# Altium schematic symbol library MB398B1.SchLib: 20 symbols
Pins are listed as number, name and electrical type; pins without a type are passive.

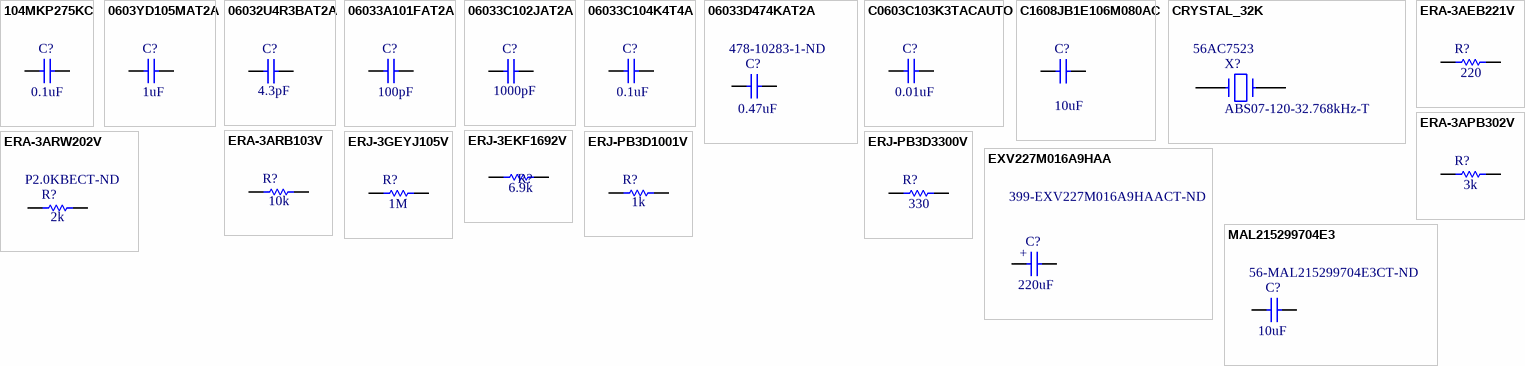
[diagram p0: symbols 104MKP275KC to MAL215299704E3]

## 104MKP275KC
designator C?  value 0.1uF  (hidden comment: 104MKP275KC)
Capacitor; Manufacturer: KEMET; Manufacturer Part Number: C0603C103K3TACAUTO; Supplier 2: Digi-Key; RoHS: No; Stock 2: 10862; Pricing 2: 1=0.45000, 10=0.31800, 50=0.24080, 100=0.20970, 500=0.15532, 1000=0.13202 (USD); Supplier Part Number 1: 399-C0603C103K3TACAUTOCT-ND
simulation model CAP (Capacitor)
signal-integrity model Cap
footprint 1.083FILM
pins: 1, 2

## 0603YD105MAT2A
designator C?  value 1uF  (hidden comment: 0603YD105MAT2A)
AVX - 0603YD105MAT2A - Keramikvielschichtkondensator, SMD, 1 µF, 16 V, 0603 [Metrisch 1608], ± 20%, X5R, AVX 0603 MLCC; Manufacturer: Kyocera AVX; Voltage Rating (DC): 16V; Dissipation Factor: 3.5%; Supplier 2: Digi-Key; Manufacturer Part Number: 0603YD105MAT2A; RoHS: Yes; Category: Ceramic Capacitors; Stock 2: 32400; Pricing 2: 1=0.17000, 10=0.12100, 50=0.06880, 100=0.05700, 500=0.03998, 1000=0.03310 (USD); Mount: Surface Mount; Case/Package: 0603; Number of Pins: 2; Case Code (Metric): 1608; Case Code (Imperial): 0603; Min Operating Temperature: -55°C; Max Operating Temperature: 85°C; Capacitance: 1uF; Tolerance: 20%; Dielectric: X5R; Packaging: Tape and Reel; Voltage Rating: 16V; Package Quantity: 4000; Termination: SMD/SMT; Series: -; Construction: Flat; Length: 1.6mm; Width: 0.032inch; Height: 0.9mm; Depth: 0.81mm; Thickness: 0.035inch; Radiation Hardening: No; REACH SVHC: No SVHC; Lead Free: Lead Free; RoHS Compliant: Yes; ComponentLink1URL: https://datasheet.ciiva.com/151/cx5r-151029.pdf?src-supplier=Digi-Key; ComponentLink1Description: https://datasheet.ciiva.com/151/cx5r-151029.pdf?src-supplier=Digi-Key; ComponentLink2URL: https://datasheet.ciiva.com/151/cx5r-151030.pdf?src-supplier=Digi-Key; ComponentLink2Description: https://datasheet.ciiva.com/151/cx5r-151030.pdf?src-supplier=Digi-Key; ComponentLink3URL: https://datasheet.ciiva.com/151/cx5r-151031.pdf?src-supplier=Digi-Key; ComponentLink3Description: https://datasheet.ciiva.com/151/cx5r-151031.pdf?src-supplier=Digi-Key; ComponentLink4URL: https://datasheet.ciiva.com/22682/1666675-22682860.pdf?src-supplier=Element14; ComponentLink4Description: https://datasheet.ciiva.com/22682/1666675-22682860.pdf?src-supplier=Element14; ComponentLink5URL: https://datasheet.ciiva.com/28586/1666675-28586031.pdf?src-supplier=Element14; ComponentLink5Description: https://datasheet.ciiva.com/28586/1666675-28586031.pdf?src-supplier=Element14; Supplier Part Number 1: 478-5319-1-ND
simulation model CAP (Capacitor)
signal-integrity model Cap
footprint 0603C (Chip Capacitor, Body 1.6x0.8mm, Height 1.0mm, IPC Medium Density)
pins: 1, 2

## 06032U4R3BAT2A
designator C?  value 4.3pF  (hidden comment: 06032U4R3BAT2A)
CAP CER 4.3PF 200V NP0 0603; Manufacturer: Kyocera AVX; Dielectric: C0G; Supplier 2: Digi-Key; Manufacturer Part Number: 06032U4R3BAT2A; RoHS: Yes; Category: Ceramic Capacitors; Stock 2: 15764; Pricing 2: 1=0.35000, 10=0.24200, 50=0.16100, 100=0.13680, 500=0.09660, 1000=0.08452 (USD); Mount: Surface Mount; Case/Package: 0603; Case Code (Imperial): 0603; Case Code (Metric): 1608; Min Operating Temperature: -55°C; Max Operating Temperature: 125°C; Voltage Rating: 200V; Capacitance: 4.3pF; Voltage Rating (DC): 200V; Packaging: Tape and Reel; Package Quantity: 8000; Termination: SMD/SMT; Resistor Type: Ceramic; Series: U; Construction: Flat; Length: 0.06inch; Width: 0.81mm; Thickness: 0.036inch; Depth: 0.76mm; Radiation Hardening: No; RoHS Compliant: Yes; ComponentLink1URL: https://datasheet.ciiva.com/207/useries-207438.pdf?src-supplier=Digi-Key; ComponentLink1Description: https://datasheet.ciiva.com/207/useries-207438.pdf?src-supplier=Digi-Key; ComponentLink2URL: https://datasheet.ciiva.com/11570/useries-11570909.pdf?src-supplier=Avnet; ComponentLink2Description: https://datasheet.ciiva.com/11570/useries-11570909.pdf?src-supplier=Avnet; Supplier Part Number 1: 478-10269-1-ND
simulation model CAP (Capacitor)
signal-integrity model Cap
footprint 0603C (Chip Capacitor, Body 1.6x0.8mm, Height 1.0mm, IPC Medium Density)
pins: 1, 2

## 06033A101FAT2A
designator C?  value 100pF  (hidden comment: 06033A101FAT2A)
Multilayer Ceramic Capacitors MLCC - SMD/SMT 25V 100pF C0G 0603 1% Tol; Manufacturer: Kyocera AVX; Supplier 2: Digi-Key; Manufacturer Part Number: 06033A101FAT2A; RoHS: Yes; Category: Ceramic Capacitors; Stock 2: 17449; Pricing 2: 1=0.50000, 10=0.34500, 50=0.24160, 100=0.20700, 500=0.15524, 1000=0.13110 (USD); Mount: Surface Mount; Case/Package: 0603; Case Code (Imperial): 0603; Case Code (Metric): 1608; Weight: 7.1E-05oz; Min Operating Temperature: -55°C; Max Operating Temperature: 125°C; Capacitance: 100pF; Tolerance: 1%; Dielectric: C0G; Packaging: Tape and Reel; Voltage Rating: 25V; Voltage Rating (DC): 25V; Package Quantity: 4000; Termination: SMD/SMT; Series: 0603; Construction: Flat; Length: 1.6mm; Width: 0.81mm; Height: 0.13mm; Depth: 0.81mm; Thickness: 0.035inch; Radiation Hardening: No; RoHS Compliant: Yes; ComponentLink1URL: https://datasheet.ciiva.com/209/ccog-209628.pdf?src-supplier=Digi-Key; ComponentLink1Description: https://datasheet.ciiva.com/209/ccog-209628.pdf?src-supplier=Digi-Key; Supplier Part Number 1: 478-06033A101FAT2ACT-ND
simulation model CAP (Capacitor)
signal-integrity model Cap
footprint 0603C (Chip Capacitor, Body 1.6x0.8mm, Height 1.0mm, IPC Medium Density)
pins: 1, 2

## 06033C102JAT2A
designator C?  value 1000pF  (hidden comment: 06033C102JAT2A)
0603 1 nF 25 V ±5 % Tolerance X7R Surface Mount Multilayer Ceramic Capacitor; Manufacturer: Kyocera AVX; Capacitance: 1nF; Tolerance: 5%; Voltage Rating (DC): 25V; Supplier Part Number 1: 478-10673-1-ND; Supplier 2: Digi-Key; Manufacturer Part Number: 06033C102JAT2A; RoHS: Yes; Category: Ceramic Capacitors; Stock 2: 72865; Pricing 2: 1=0.27000, 10=0.18600, 50=0.12420, 100=0.10560, 500=0.07452, 1000=0.06520 (USD); Mount: Surface Mount; Case/Package: 0603; Number of Pins: 2; Case Code (Metric): 1608; Case Code (Imperial): 0603; Min Operating Temperature: -55°C; Max Operating Temperature: 125°C; Packaging: Tape and Reel; Dielectric: X7R; Package Quantity: 1; Voltage Rating: 25V; Termination: SMD/SMT; Series: -; Construction: Flat; Length: 1.6mm; Width: 0.032inch; Thickness: 0.035inch; Depth: 0.81mm; Lead Free: Lead Free; RoHS Compliant: Yes; REACH SVHC: Unknown; ComponentLink1URL: https://datasheet.ciiva.com/206/cx7r-206114.pdf?src-supplier=Digi-Key; ComponentLink1Description: https://datasheet.ciiva.com/206/cx7r-206114.pdf?src-supplier=Digi-Key; ComponentLink2URL: https://datasheet.ciiva.com/14886/cx7r-14886873.pdf?src-supplier=Digi-Key; ComponentLink2Description: https://datasheet.ciiva.com/14886/cx7r-14886873.pdf?src-supplier=Digi-Key; ComponentLink3URL: https://datasheet.ciiva.com/14886/cx7r-14886874.pdf?src-supplier=Digi-Key; ComponentLink3Description: https://datasheet.ciiva.com/14886/cx7r-14886874.pdf?src-supplier=Digi-Key; ComponentLink4URL: https://datasheet.ciiva.com/5422/cx7r-218113-5422101.pdf?src-supplier=Mouser; ComponentLink4Description: https://datasheet.ciiva.com/5422/cx7r-218113-5422101.pdf?src-supplier=Mouser; ComponentLink5URL: https://datasheet.ciiva.com/16327/cx7r-16327167.pdf?src-supplier=Future+Electronics; ComponentLink5Description: https://datasheet.ciiva.com/16327/cx7r-16327167.pdf?src-supplier=Future+Electronics
simulation model CAP (Capacitor)
signal-integrity model Cap
footprint 0603C (Chip Capacitor, Body 1.6x0.8mm, Height 1.0mm, IPC Medium Density)
pins: 1, 2

## 06033C104K4T4A
designator C?  value 0.1uF  (hidden comment: 06033C104K4T4A)
Cap Ceramic 0.1uF 25V X7R 10% Pad SMD 0603 125C Automotive T/R; Manufacturer: Kyocera AVX; Capacitance: 100nF; Supplier Part Number 1: 478-10673-1-ND; Supplier 2: Digi-Key; Manufacturer Part Number: 06033C104K4T4A; RoHS: Yes; Category: Ceramic Capacitors; Stock 2: 4996; Pricing 2: 1=0.15000, 10=0.11000, 50=0.06220, 100=0.05150, 500=0.03612, 1000=0.02991, 2500=0.02784, 5000=0.02547 (USD); Mount: Surface Mount; Case/Package: 0603; Min Operating Temperature: -55°C; Max Operating Temperature: 125°C; Tolerance: 10%; Packaging: Tape and Reel; Dielectric: X7R; Voltage Rating (DC): 25V; Construction: Flat; Length: 1.6mm; Depth: 0.81mm; ComponentLink1URL: https://datasheet.ciiva.com/11503/cauto-11503964.pdf?src-supplier=Avnet; ComponentLink1Description: https://datasheet.ciiva.com/11503/cauto-11503964.pdf?src-supplier=Avnet
simulation model CAP (Capacitor)
signal-integrity model Cap
footprint 0603C (Chip Capacitor, Body 1.6x0.8mm, Height 1.0mm, IPC Medium Density)
pins: 1, 2

## 06033D474KAT2A
designator C?  value 0.47uF  Supplier Part Number 3: 478-10283-1-ND  (hidden comment: 06033D474KAT2A)
CAP CER 0.47UF 25V X5R 0603; Manufacturer: Kyocera AVX; Capacitance: 470nF; Tolerance: 10%; Supplier 2: Digi-Key; Manufacturer Part Number: 06033D474KAT2A; RoHS: Yes; Category: Ceramic Capacitors; Stock 2: 2153; Pricing 2: 1=0.54000, 10=0.37400, 50=0.26160, 100=0.22420, 500=0.16818, 1000=0.14202 (USD); Mount: Surface Mount; Case/Package: 0603; Number of Pins: 2; Case Code (Metric): 1608; Case Code (Imperial): 0603; Min Operating Temperature: -55°C; Max Operating Temperature: 85°C; Packaging: Tape and Reel; Voltage Rating: 25V; Package Quantity: 4000; Voltage Rating (DC): 25V; Dielectric: X5R; Termination: SMD/SMT; Series: -; Construction: Flat; Length: 1.6mm; Width: 0.032inch; Height: 0.9mm; Thickness: 0.035inch; Depth: 0.81mm; Radiation Hardening: No; REACH SVHC: Unknown; Lead Free: Lead Free; RoHS Compliant: Yes; ComponentLink1URL: https://datasheet.ciiva.com/6265/cx5r-6265463.pdf?src-supplier=Digi-Key; ComponentLink1Description: https://datasheet.ciiva.com/6265/cx5r-6265463.pdf?src-supplier=Digi-Key; ComponentLink2URL: https://datasheet.ciiva.com/5452/cx5r-5452170.pdf?src-supplier=Mouser; ComponentLink2Description: https://datasheet.ciiva.com/5452/cx5r-5452170.pdf?src-supplier=Mouser; Supplier 1: Digi-Key; Supplier 3: Digi-Key
simulation model CAP (Capacitor)
signal-integrity model Cap
footprint 0603C (Chip Capacitor, Body 1.6x0.8mm, Height 1.0mm, IPC Medium Density)
pins: 1, 2

## C0603C103K3TACAUTO
designator C?  value 0.01uF  (hidden comment: C0603C103K3TACAUTO)
Capacitor; Manufacturer: KEMET; Supplier 2: Digi-Key; Manufacturer Part Number: C0603C103K3TACAUTO; RoHS: No; Stock 2: 10862; Pricing 2: 1=0.45000, 10=0.31800, 50=0.24080, 100=0.20970, 500=0.15532, 1000=0.13202 (USD); Supplier Part Number 1: 399-C0603C103K3TACAUTOCT-ND
simulation model CAP (Capacitor)
signal-integrity model Cap
footprint 0603C (Chip Capacitor, Body 1.6x0.8mm, Height 1.0mm, IPC Medium Density)
pins: 1, 2

## C1608JB1E106M080AC
designator C?  value 10uF  (hidden comment: C1608JB1E106M080AC)
CAP CER 10UF 25V JB 0603; Manufacturer: TDK; Dielectric Material: Ceramic; Tolerance: 20%; Supplier 2: Digi-Key; Manufacturer Part Number: C1608JB1E106M080AC; RoHS: Yes; Category: Ceramic Capacitors; Stock 2: 31154; Pricing 2: 1=0.73000, 10=0.53900, 50=0.43120, 100=0.36960, 500=0.29260, 1000=0.24640 (USD); Mount: Surface Mount; Case/Package: 0603; Case Code (Metric): 1608; Case Code (Imperial): 0603; Min Operating Temperature: -25°C; Max Operating Temperature: 85°C; Package Quantity: 4000; Packaging: Tape and Reel; Capacitance: 10uF; Voltage Rating: 25V; Termination: SMD/SMT; Resistor Type: Ceramic; Voltage Rating (DC): 25V; Series: C; Length: 0.063inch; Width: 0.8mm; Height: 0.8mm; Thickness: 0.035inch; Lead Free: Lead Free; RoHS Compliant: Yes; ComponentLink1URL: https://datasheet.ciiva.com/14907/tdkmlcccaprange-14907785.pdf?src-supplier=Digi-Key; ComponentLink1Description: https://datasheet.ciiva.com/14907/tdkmlcccaprange-14907785.pdf?src-supplier=Digi-Key; ComponentLink2URL: https://datasheet.ciiva.com/14907/tdkmlcccaprange-14907786.pdf?src-supplier=Digi-Key; ComponentLink2Description: https://datasheet.ciiva.com/14907/tdkmlcccaprange-14907786.pdf?src-supplier=Digi-Key; ComponentLink3URL: https://datasheet.ciiva.com/14907/tdkmlcccaprange-14907787.pdf?src-supplier=Digi-Key; ComponentLink3Description: https://datasheet.ciiva.com/14907/tdkmlcccaprange-14907787.pdf?src-supplier=Digi-Key; Supplier Part Number 1: 445-11238-1-ND
simulation model CAP (Capacitor)
signal-integrity model Cap
footprint 0603C (Chip Capacitor, Body 1.6x0.8mm, Height 1.0mm, IPC Medium Density)
pins: 1, 2

## CRYSTAL_32K
designator X?, comment ABS07-120-32.768kHz-T  Supplier Part Number 1: 56AC7523
3.2 x 1.5mm, 32.768KHZ Xtal 6pf, 20ppm, -40+85C, ESR 60kOhm, ST Micro Ref Design Crystal for STM32L; Manufacturer: Abracon; ESR (Equivalent Series Resistance): 55kR; Series Resistance: 60kR; Supplier 1: Newark; Manufacturer Part Number: ABS07-120-32.768KHZ-T; RoHS: Yes; Category: Crystals; Pricing 1: 1=1.11000, 25=0.94000, 50=0.85400, 100=0.80100, 250=0.75400, 500=0.73700, 1000=0.66000 (USD); Mount: Surface Mount; Case/Package: SMD/SMT; Number of Pins: 2; Min Operating Temperature: -40°C; Max Operating Temperature: 85°C; Tolerance: 20ppm; Frequency: 32.768kHz; Load Capacitance: 6pF; Frequency Tolerance: 20ppm; Packaging: Tape and Reel; Package Quantity: 3000; Termination: SMD/SMT; Series: ABS07; Operating Frequency: 32.768 kHz; Length: 3.2mm; Width: 0.061inch; Height: 0.035inch; Depth: 1.5mm; Radiation Hardening: No; REACH SVHC: No SVHC; Lead Free: Lead Free; RoHS Compliant: Yes; ComponentLink1URL: https://datasheet.ciiva.com/6728/abs07-120-32-768khz-t-6728893.pdf?src-supplier=Digi-Key; ComponentLink1Description: https://datasheet.ciiva.com/6728/abs07-120-32-768khz-t-6728893.pdf?src-supplier=Digi-Key; ComponentLink2URL: https://datasheet.ciiva.com/12387/abs07-120-32-768khz-t-218607-12387629.pdf?src-supplier=Mouser; ComponentLink2Description: https://datasheet.ciiva.com/12387/abs07-120-32-768khz-t-218607-12387629.pdf?src-supplier=Mouser; ComponentLink3URL: https://datasheet.ciiva.com/15214/getdatasheetpartid-722402-15214953.pdf?src-supplier=Verical; ComponentLink3Description: https://datasheet.ciiva.com/15214/getdatasheetpartid-722402-15214953.pdf?src-supplier=Verical
footprint XTAL_2SM_3R2X1R5 (CRYSTAL 32.768KHZ 6PF SMD 2 pads)
pins: 1, 2
2 alternate drawings of the same symbol

## ERA-3AEB221V
designator R?  value 220  (hidden comment: ERA-3AEB221V)
Resistor, SMD 220 Ohm 0603  ±  0.1 %, ERA3AEB221V, Panasonic Automotive & Industrial Systems; Resistance: 220R; Tolerance: 0.1%; Temperature Coefficient: 25ppm/°C; Power Rating: 100mW; Voltage Rating: 75V; Supplier 1: Digi-Key; Manufacturer: Panasonic; Manufacturer Part Number: ERA3AEB221V; RoHS: Yes; Category: Chip SMD Resistors; Stock 1: 28927; Pricing 1: 1=0.31000, 10=0.26000, 100=0.10150, 1000=0.04248, 2500=0.03894 (USD); Mount: Surface Mount; Case/Package: 0603; Number of Pins: 2; Contact Plating: Tin; Case Code (Metric): 1608; Case Code (Imperial): 0603; Min Operating Temperature: -55°C; Max Operating Temperature: 155°C; Resistor Type: Thin Film; Packaging: Tape and Reel; Package Quantity: 1; Number of Terminations: 2; Termination: SMD/SMT; Max Power Dissipation: 100mW; Voltage Rating (DC): 75V; Features: Automotive AEC-Q200; Series: ERA-3A; Construction: Rectangular; Resistance Tolerance: 0.1%; Technology: METAL FILM; Length: 1.6mm; Width: 0.8mm; Height: 0.45mm; Depth: 0.8mm; Radiation Hardening: No; REACH SVHC: No SVHC; Military Standard: Not; Lead Free: Lead Free; RoHS Compliant: Yes; ComponentLink1URL: https://datasheet.ciiva.com/11808/0900766b80fe20f7-11808055.pdf?src-supplier=RSComponents; ComponentLink1Description: https://datasheet.ciiva.com/11808/0900766b80fe20f7-11808055.pdf?src-supplier=RSComponents; ComponentLink2URL: https://datasheet.ciiva.com/29183/450451-da-01-en-widerstand-0603-era-29183676.pdf?src-supplier=Conrad; ComponentLink2Description: https://datasheet.ciiva.com/29183/450451-da-01-en-widerstand-0603-era-29183676.pdf?src-supplier=Conrad; ComponentLink3URL: https://datasheet.ciiva.com/43455/485442-43455212.pdf?src-supplier=Farnell; ComponentLink3Description: https://datasheet.ciiva.com/43455/485442-43455212.pdf?src-supplier=Farnell; ComponentLink4URL: https://datasheet.ciiva.com/6000/485442-6000910.pdf?src-supplier=Farnell; ComponentLink4Description: https://datasheet.ciiva.com/6000/485442-6000910.pdf?src-supplier=Farnell; ComponentLink5URL: https://datasheet.ciiva.com/9184/aoa0000ce26-9184316.pdf?src-supplier=Avnet; ComponentLink5Description: https://datasheet.ciiva.com/9184/aoa0000ce26-9184316.pdf?src-supplier=Avnet; ComponentLink6URL: https://datasheet.ciiva.com/9117/aoa0000ce26-9117624.pdf?src-supplier=Avnet; ComponentLink6Description: https://datasheet.ciiva.com/9117/aoa0000ce26-9117624.pdf?src-supplier=Avnet; ComponentLink7URL: https://datasheet.ciiva.com/30089/54aoa0000ce26-30089206.pdf?src-supplier=Onlinecomponents.com; ComponentLink7Description: https://datasheet.ciiva.com/30089/54aoa0000ce26-30089206.pdf?src-supplier=Onlinecomponents.com; ComponentLink8URL: https://datasheet.ciiva.com/17206/aoa0000ce26-17206814.pdf?src-supplier=Avnet+Europe; ComponentLink8Description: https://datasheet.ciiva.com/17206/aoa0000ce26-17206814.pdf?src-supplier=Avnet+Europe; ComponentLink9URL: https://datasheet.ciiva.com/48530/era-eng-tds-48530567.pdf?src-supplier=Distrelec; ComponentLink9Description: https://datasheet.ciiva.com/48530/era-eng-tds-48530567.pdf?src-supplier=Distrelec; ComponentLink10URL: https://datasheet.ciiva.com/7886/485442-7886586.pdf?src-supplier=Element14; ComponentLink10Description: https://datasheet.ciiva.com/7886/485442-7886586.pdf?src-supplier=Element14; ComponentLink11URL: https://datasheet.ciiva.com/22739/485442-22739289.pdf?src-supplier=Element14; ComponentLink11Description: https://datasheet.ciiva.com/22739/485442-22739289.pdf?src-supplier=Element14; ComponentLink12URL: https://datasheet.ciiva.com/48425/era-eng-tds-48425439.pdf?src-supplier=Distrelec; ComponentLink12Description: https://datasheet.ciiva.com/48425/era-eng-tds-48425439.pdf?src-supplier=Distrelec; Supplier Part Number 1: P220DBCT-ND
simulation model RESISTOR (Resistor)
signal-integrity model Res
footprint 0603R (Chip Resistor, Body 1.6x0.8mm, IPC Medium Density)
pins: 1, 2

## ERA-3APB302V
designator R?  value 3k  (hidden comment: ERA-3APB302V)
Resistor, SMD 220 Ohm 0603  ±  0.1 %, ERA3AEB221V, Panasonic Automotive & Industrial Systems; Supplier 1: Digi-Key; Supplier Part Number 1: P3.0KAYCT-ND
simulation model RESISTOR (Resistor)
signal-integrity model Res
footprint 0603R (Chip Resistor, Body 1.6x0.8mm, IPC Medium Density)
pins: 1, 2

## ERA-3ARB103V
designator R?  value 10k  (hidden comment: ERA-3ARB103V)
Resistor, SMD 10 kOhm 0603  ±  0.1 %, ERA3ARB103V, Panasonic Automotive & Industrial Systems; Resistance: 10kR; Tolerance: 0.1%; Temperature Coefficient: 10ppm/°C; Power Rating: 100mW; Voltage Rating: 75V; Voltage Rating (DC): 150V; Published: 8-Jun-2000; LatestRevisionDate: 17-Jul-2002; LatestRevisionNote: Re-released for DXP Platform.; PackageReference: 0603 MET; Publisher: Altium Limited; PackageDescription: Axial Device, Thru-Hole; 2 Leads; 0.3 in Pin Spacing; Supplier 1: Digi-Key; Manufacturer: Panasonic; Manufacturer Part Number: ERA-3ARB103V; RoHS: Yes; Category: Chip SMD Resistors; Stock 1: 16117; Pricing 1: 1=0.72000, 10=0.53000, 100=0.30890, 1000=0.17322, 2500=0.16973 (USD); Mount: Surface Mount; Case/Package: 0603; Number of Pins: 2; Contact Plating: Tin; Case Code (Metric): 1608; Case Code (Imperial): 0603; Min Operating Temperature: -55°C; Max Operating Temperature: 155°C; Resistor Type: Metal Film,Thin Film; Packaging: Tape and Reel; Package Quantity: 5000; Number of Terminations: 2; Termination: SMD/SMT; Max Power Dissipation: 100mW; Series: ERA-3A; Construction: Rectangular; Resistance Tolerance: 0.1%; Length: 1.6mm; Width: 0.031inch; Height: 0.022inch; Depth: 0.8mm; Radiation Hardening: No; REACH SVHC: No SVHC; Military Standard: Not; Lead Free: Lead Free; RoHS Compliant: Yes; ComponentLink1URL: https://datasheet.ciiva.com/48425/era-eng-tds-48425501.pdf?src-supplier=Distrelec; ComponentLink1Description: https://datasheet.ciiva.com/48425/era-eng-tds-48425501.pdf?src-supplier=Distrelec; ComponentLink2URL: https://datasheet.ciiva.com/17212/aoa0000ce26-17212075.pdf?src-supplier=Avnet+Europe; ComponentLink2Description: https://datasheet.ciiva.com/17212/aoa0000ce26-17212075.pdf?src-supplier=Avnet+Europe; Supplier Part Number 1: P10KBDCT-ND
simulation model RESISTOR (Resistor)
signal-integrity model Res
footprint 0603R (Chip Resistor, Body 1.6x0.8mm, IPC Medium Density)
pins: 1, 2

## ERA-3ARW202V
designator R?  value 2k  Supplier Part Number 1: P2.0KBECT-ND  (hidden comment: ERA-3ARW202V)
2k Panasonic Resistor; Supplier 1: Digi-Key
simulation model RESISTOR (Resistor)
signal-integrity model Res
footprint 0603R (Chip Resistor, Body 1.6x0.8mm, IPC Medium Density)
pins: 1, 2

## ERJ-3EKF1692V
designator R?  value 6.9k  (hidden comment: ERJ-3EKF1692V)
Resistor, SMD 220 Ohm 0603  ±  0.1 %, ERA3AEB221V, Panasonic Automotive & Industrial Systems; Supplier 1: Digi-Key; Supplier Part Number 1: P16.9KHCT-ND
simulation model RESISTOR (Resistor)
signal-integrity model Res
footprint 0603R (Chip Resistor, Body 1.6x0.8mm, IPC Medium Density)
pins: 1, 2

## ERJ-3GEYJ105V
designator R?  value 1M  (hidden comment: ERJ-3GEYJ105V)
Resistor, SMD 220 Ohm 0603  ±  0.1 %, ERA3AEB221V, Panasonic Automotive & Industrial Systems; Supplier 1: Digi-Key; Supplier Part Number 1: P1.0MGCT-ND
simulation model RESISTOR (Resistor)
signal-integrity model Res
footprint 0603R (Chip Resistor, Body 1.6x0.8mm, IPC Medium Density)
pins: 1, 2

## ERJ-PB3D1001V
designator R?  value 1k  (hidden comment: ERJ-PB3D1001V)
PANASONIC - ERJ-PB3D1001V - CHIP RES, THICK FILM, 1K, 0.2W, 0603; Resistance: 1kR; Tolerance: 0.5%; Max Power Dissipation: 200mW; Temperature Coefficient: 50ppm/°C; Supplier 1: Digi-Key; Manufacturer: Panasonic; Manufacturer Part Number: ERJ-PB3D1001V; RoHS: Yes; Category: Chip SMD Resistors; Stock 1: 4491; Pricing 1: 1=0.16000, 10=0.13500, 25=0.09840, 50=0.07140, 100=0.05290, 250=0.04060, 500=0.03198, 1000=0.02214 (USD); Case/Package: 0603; Case Code (Metric): 1608; Case Code (Imperial): 0603; Min Operating Temperature: -55°C; Max Operating Temperature: 155°C; Packaging: Tape and Reel; Resistor Type: Thick Film; Number of Terminations: 2; Features: Automotive AEC-Q200; Length: 0.063inch; Width: 0.032inch; Height - Seated (Max): 0.022inch; ComponentLink1URL: https://industrial.panasonic.com/cdbs/www-data/pdf/RDM0000/DMM0000COL5.pdf?src-supplier=Digi-Key; ComponentLink1Description: https://industrial.panasonic.com/cdbs/www-data/pdf/RDM0000/DMM0000COL5.pdf?src-supplier=Digi-Key; ComponentLink2URL: https://industrial.panasonic.com/sa/system/files/data/download/catalog/id_fixed-resistors_e_2.pdf?src-supplier=Digi-Key; ComponentLink2Description: https://industrial.panasonic.com/sa/system/files/data/download/catalog/id_fixed-resistors_e_2.pdf?src-supplier=Digi-Key; ComponentLink3URL: http://www.farnell.com/datasheets/2286937.pdf?src-supplier=Newark; ComponentLink3Description: http://www.farnell.com/datasheets/2286937.pdf?src-supplier=Newark; Supplier Part Number 1: P20283CT-ND
simulation model RESISTOR (Resistor)
signal-integrity model Res
footprint 0603R (Chip Resistor, Body 1.6x0.8mm, IPC Medium Density)
pins: 1, 2

## ERJ-PB3D3300V
designator R?  value 330  (hidden comment: ERJ-PB3D3300V)
RES SMD 330 OHM 0.5% 1/5W 0603; Manufacturer: Panasonic; Resistance: 330R; Max Power Dissipation: 200mW; Temperature Coefficient: 50ppm/°C; Supplier 1: Digi-Key; Manufacturer Part Number: ERJ-PB3D3300V; RoHS: Yes; Category: Chip SMD Resistors; Stock 1: 827; Pricing 1: 1=0.16000, 10=0.13500, 25=0.09840, 50=0.07140, 100=0.05290, 250=0.04060, 500=0.03198, 1000=0.02214 (USD); Case/Package: 0603; Case Code (Metric): 1608; Case Code (Imperial): 0603; Min Operating Temperature: -55°C; Max Operating Temperature: 155°C; Packaging: Tape and Reel; Resistor Type: Thick Film; Number of Terminations: 2; Tolerance: 0.5%; Features: Automotive AEC-Q200; Length: 0.063inch; Width: 0.032inch; Height - Seated (Max): 0.022inch; ComponentLink1URL: https://industrial.panasonic.com/sa/system/files/data/download/catalog/id_fixed-resistors_e_2.pdf?src-supplier=Digi-Key; ComponentLink1Description: https://industrial.panasonic.com/sa/system/files/data/download/catalog/id_fixed-resistors_e_2.pdf?src-supplier=Digi-Key; ComponentLink2URL: https://industrial.panasonic.com/cdbs/www-data/pdf/RDM0000/DMM0000COL5.pdf?src-supplier=Digi-Key; ComponentLink2Description: https://industrial.panasonic.com/cdbs/www-data/pdf/RDM0000/DMM0000COL5.pdf?src-supplier=Digi-Key; Supplier Part Number 1: P20226CT-ND
simulation model RESISTOR (Resistor)
signal-integrity model Res
footprint 0603R (Chip Resistor, Body 1.6x0.8mm, IPC Medium Density)
pins: 1, 2

## EXV227M016A9HAA
designator C?  value 220uF  Supplier Part Number 1: 399-EXV227M016A9HAACT-ND  (hidden comment: EXV227M016A9HAA)
Aluminum electrolytic capacitor, 220uF, 16V; Manufacturer: KEMET; Manufacturer Part Number: C0603C103K3TACAUTO; RoHS: No; Stock 2: 10862; Pricing 2: 1=0.45000, 10=0.31800, 50=0.24080, 100=0.20970, 500=0.15532, 1000=0.13202 (USD)
simulation model CAP (Capacitor)
signal-integrity model Cap
footprint small_boi
pins: 1, 2
text: +

## MAL215299704E3
designator C?  value 10uF  Supplier Part Number 1: 56-MAL215299704E3CT-ND  (hidden comment: MAL215299704E3)
Aluminum Electrolitic Capacitor, 10uF, 450Vac; Manufacturer: KEMET; Manufacturer Part Number: C0603C103K3TACAUTO; RoHS: No; Stock 2: 10862; Pricing 2: 1=0.45000, 10=0.31800, 50=0.24080, 100=0.20970, 500=0.15532, 1000=0.13202 (USD)
simulation model CAP (Capacitor)
signal-integrity model Cap
footprint PCBComponent_1
pins: 1, 2